# EAGLE library part PE42441C-Z (library ruark2)
RF Switch IC WLAN SP4T 8GHz 50 Ohm 32-LGA (5x5)
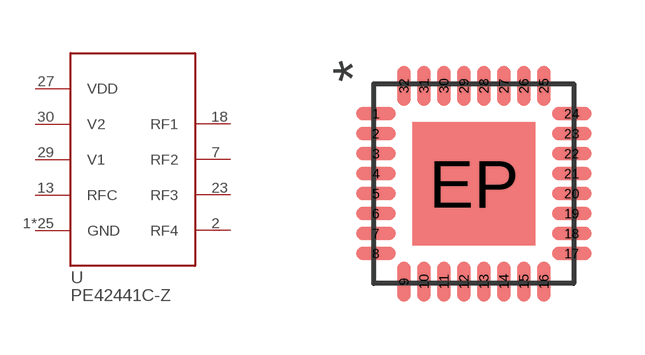
[diagram p68: symbol with the pads of QFN32-55; footprint QFN32-55]

Designator prefix U

## PE42441C-Z (PARTNO: 1046-1108-1-ND)  [QFN32-55]
1  GND
2  RF4
3  GND
4  GND
5  GND
6  GND
7  RF2
8  GND
9  GND
10  GND
11  GND
12  GND
13  RFC
14  GND
15  GND
16  GND
17  GND
18  RF1
19  GND
20  GND
21  GND
22  GND
23  RF3
24  GND
25  GND
26  GND
27  VDD
28  GND
29  V1
30  V2
31  GND
32  GND
EP  GND

## Footprint QFN32-55 (pad centres in mm)
smd 1 x 0.34: 1 -2.45,1.75; 2 -2.45,1.25; 3 -2.45,0.75; 4 -2.45,0.25; 5 -2.45,-0.25; 6 -2.45,-0.75; 7 -2.45,-1.25; 8 -2.45,-1.75; 17 2.45,-1.75; 18 2.45,-1.25; 19 2.45,-0.75; 20 2.45,-0.25; 21 2.45,0.25; 22 2.45,0.75; 23 2.45,1.25; 24 2.45,1.75
smd 0.34 x 1: 9 -1.75,-2.45; 10 -1.25,-2.45; 11 -0.75,-2.45; 12 -0.25,-2.45; 13 0.25,-2.45; 14 0.75,-2.45; 15 1.25,-2.45; 16 1.75,-2.45; 25 1.75,2.45; 26 1.25,2.45; 27 0.75,2.45; 28 0.25,2.45; 29 -0.25,2.45; 30 -0.75,2.45; 31 -1.25,2.45; 32 -1.75,2.45
smd 3.08 x 3.08: EP 0,0